# Altium footprint library SMDcapacitor_0805_.PcbLib: 1 footprints
Each footprint in its own frame and in the unit in brackets; x right, y up, seen from the top. Pads: shape width x height; smd on the part's side, far side on the other; paste and mask are expansions set on the pad; w line width, h text height; cw(c..) or ccw(c..) is an arc to the next point about the centre after c.
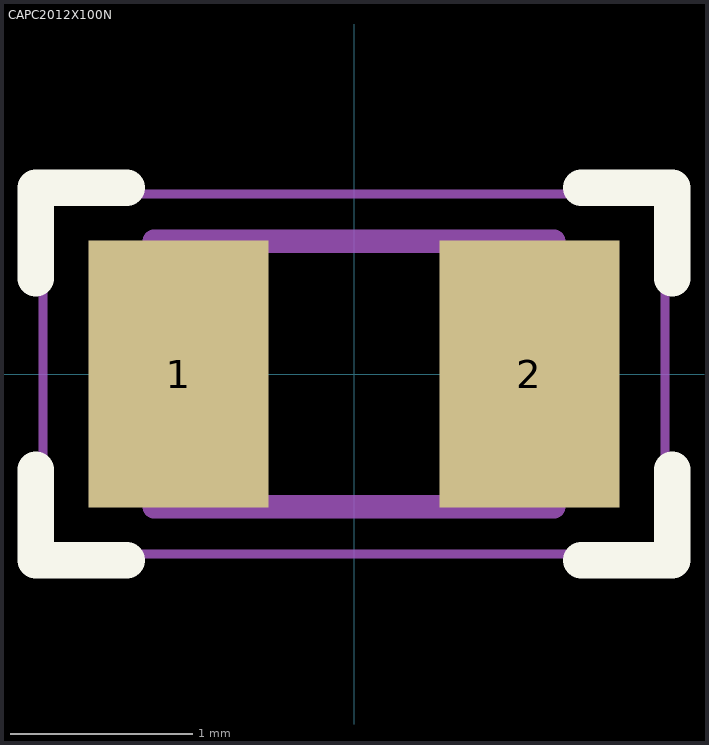
[diagram p0: the footprint, top view; thin cyan lines are the x and y axes]

## CAPC2012X100N [mm]
pads (2):
  rect 0.99x1.47 smd: 1(-0.965,0) 2(0.965,0)
Top Overlay:
  lines w0.2: -1.75,-0.525 -1.75,-1.025 -1.25,-1.025 ; -1.75,0.525 -1.75,1.025 -1.25,1.025 ; 1.25,-1.025 1.75,-1.025 1.75,-0.525 ; 1.25,1.025 1.75,1.025 1.75,0.525
Mechanical 4:
  lines w0.127: -1.1,-0.73 1.1,-0.73 ; -1.1,-0.73 -1.1,0.73 ; -1.1,-0.73 1.1,-0.73 ; -1.1,-0.73 -1.1,0.73 ; -1.1,0.73 1.1,0.73 ; -1.1,0.73 1.1,0.73 ; 1.1,-0.73 1.1,0.73 ; 1.1,-0.73 1.1,0.73
Mechanical 16:
  lines w0.051: -1.71,-0.99 1.71,-0.99 1.71,0.99 -1.71,0.99 -1.71,-0.99
3D body "CAPC0805.STEP": height 0.9, standoff 0, extent -1.276,-0.678 1.326,0.678